# EAGLE library part 6180XX25023_61800925023 (library WR-DSUB)
WR-DSUB Male PCB Connector General Information QOperating Temperature -55 °C up to +105 °C Gender Male Type Straight Insulator Material PBT Insulator Flammability Rating UL94 V-0 Insulator Color White Contact Material Copper Alloy Contact Plating Gold Contact Type Stamped Shielding Material Steel Shielding Plating Tin Electrical Properties IR 3 A Working Voltage 250 V (AC) Withstanding Voltage 1000 V (AC) Contact Resistance 30 mΩ <https://www.we-online.com/components/media/o33086v209%20Family_I-O_DSUB_PCB_Male_6180xx25023_pf2.jpg> Details see: www.we-online.com/components/products/DSUB_MALE_PCB_CONNECTOR_6180XX25023 <www.we-online.com/catalog/DSUB_MALE_PCB_CONNECTOR_6180XX25023/?utm_source=eagle_model&utm_medium=description_link&utm_campaign=eisos_eagle> Updated by Ella Wu 2025-07-25 2025 (C) Würth Elektronik
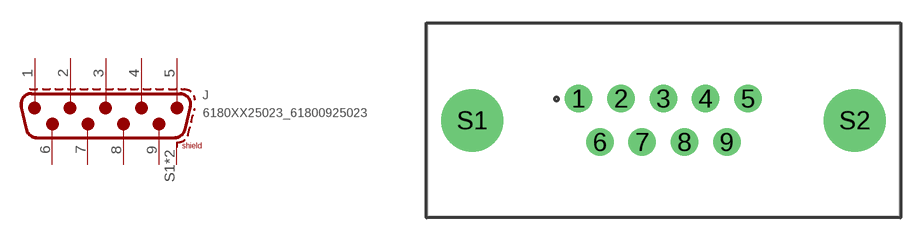
[diagram p9: symbol with the pads of 61800925023; footprint 61800925023]

Designator prefix J

## 6180XX25023_61800925023 (DATASHEET-URL: https://www.we-online.com/redexpert/spec/61800925023?ae; GENDER: Male; OPERATING-TEMPERATURE: -55 °C up to +105 °C; PART-NUMBER: 61800925023; PINS: 9; TYPE: Straight; VALUE: 61800925023; WORKING-VOLTAGE: 250VAC)  [61800925023]
1  1
2  2
3  3
4  4
5  5
6  6
7  7
8  8
9  9
S1  SHIELD
S2  SHIELD

## Footprint 61800925023 (pad centres in mm)
WR-DSUB Male PCB Connector, 9 Pins
drill 1.2: 1 -5.55,1.42; 2 -2.78,1.42; 3 -0.01,1.42; 4 2.76,1.42; 5 5.53,1.42; 6 -4.165,-1.42; 7 -1.395,-1.42; 8 1.375,-1.42; 9 4.145,-1.42
drill 3.05: S1 -12.5,0; S2 12.5,0